# Altium schematic symbol library STMicroelectronics STM32 L1.SchLib: 169 symbols (part 15 of 20)
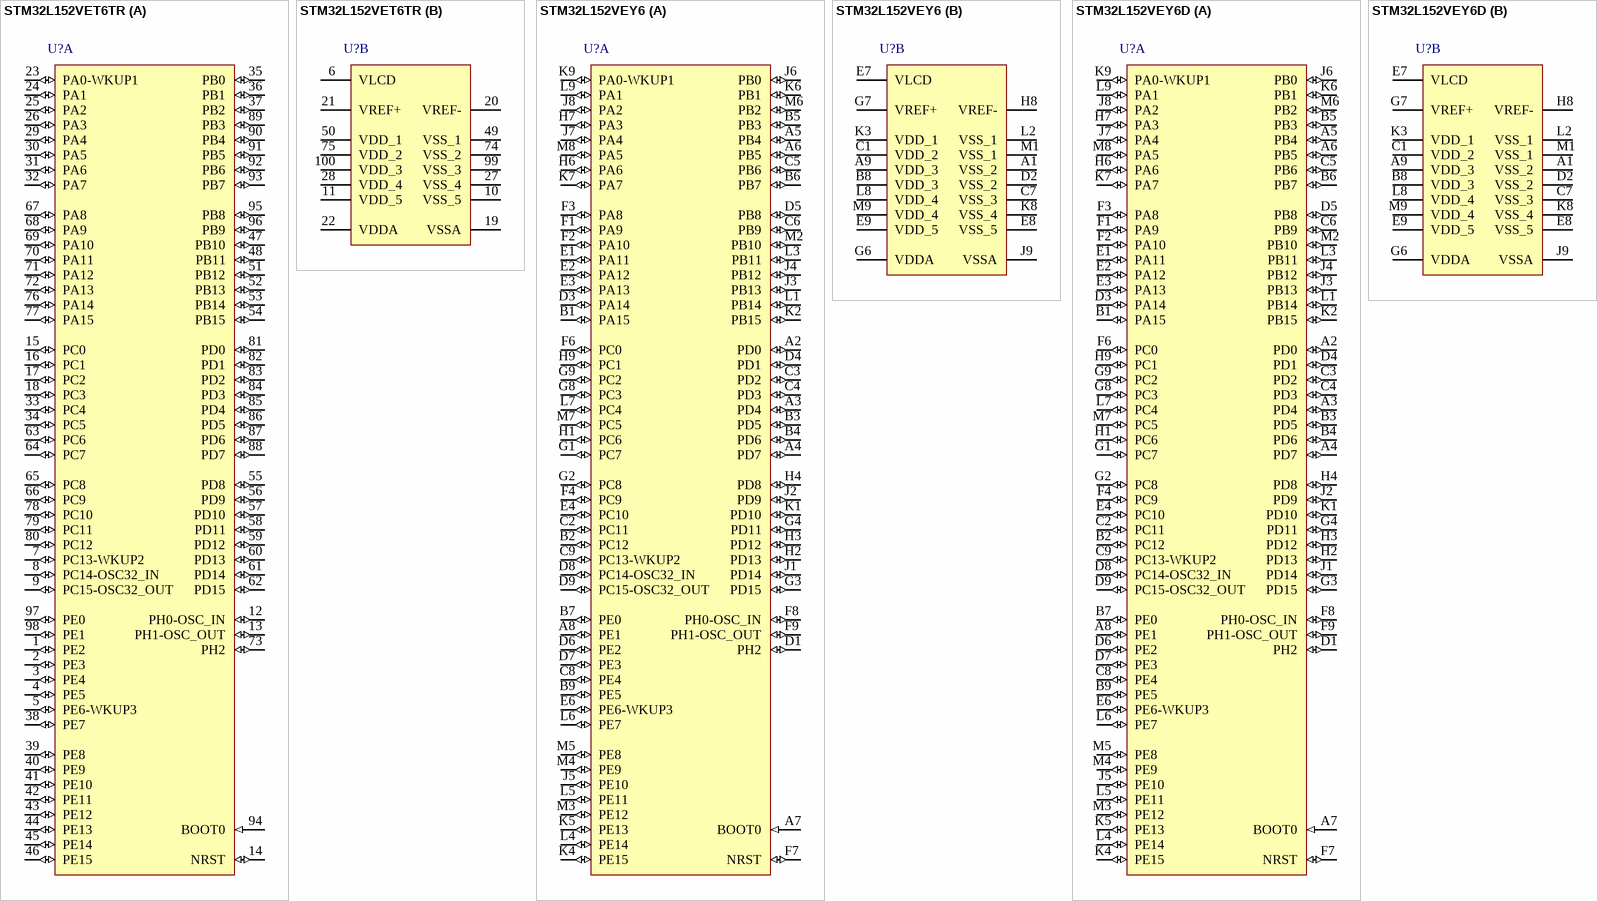
[diagram p48: symbols STM32L152VET6TR to STM32L152VEY6D]

## STM32L152VET6TR
designator U?
ARM Cortex-M3 32-bit MCU, 512 KB Flash, 80 KB Internal RAM, 83 I/Os, 100-pin LQFP, -40 to 85 degC, Tape and Reel; Manufacturer: STMicroelectronics; PartNumber: STM32L152VET6TR; D/A Converter: 2x12-bit (2 Channel); Data E2PROM nom (kB): 16; FLASH Size (Prog) (kB): 512; I/Os (High Current): 83; Internal RAM Size (kB): 80; Operating Frequency(F) (Processor speed) (MHz): 32; Supply Voltage (V): 1.8 to 3.6 V; DatasheetVersion: Rev. 4; PackageVersion: Rev. 4; PackageReference: LQFP100; PackageDescription: 100-Pin Low Profile Quad Flat Package, Body 14 x 14 mm, Pitch 0.5 mm; Core: ARM Cortex-M3; Temperature Range: -40 to 85 degC; Packing: Tape and Reel; Mounting Technology: Surface Mount; ComponentLink1Description: Manufacturer URL; ComponentLink1URL: http://www.st.com/web/en/home.html; ComponentLink2Description: Datasheet; ComponentLink2URL: http://www.st.com/st-web-ui/static/active/en/resource/technical/document/datasheet/DM00098321.pdf; ComponentLink3Description: Package Specification; ComponentLink3URL: http://www.st.com/st-web-ui/static/active/en/resource/technical/document/datasheet/DM00098321.pdf
footprint STM-LQFP100_N (Thin QFP, 100-Leads, Body 14x14mm, Pitch 0.5mm, IPC Medium Density)
footprint STM-LQFP100_L (Thin QFP, 100-Leads, Body 14x14mm, Pitch 0.5mm, IPC High Density)
footprint STM-LQFP100_M (Thin QFP, 100-Leads, Body 14x14mm, Pitch 0.5mm, IPC Low Density)
footprint STM-LQFP100_V (Thin QFP, 100-Leads, Body 14x14mm, Pitch 0.5mm, ST Recommended)
part A pins: 1 PE2 (io) "PE2/TIM3_ETR/LCD_SEG38/TRACECLK", 2 PE3 (io) "PE3/TIM3_CH1/LCD_SEG39/TRACED0", 3 PE4 (io) "PE4/TIM3_CH2/TRACED1", 4 PE5 (io) "PE5/TIM9_CH1/TRACED2", 5 PE6-WKUP3 (io) "PE6-WKUP3/PE6/WKUP3/RTC_TAMP3/TIM9_CH2/TRACED3", 7 PC13-WKUP2 (io) "PC13-WKUP2/PC13/WKUP2/RTC_TAMP1/RTC_TS/RTC_OUT", 8 PC14-OSC32_IN (io) "PC14-OSC32_IN/PC14/OSC32_IN", 9 PC15-OSC32_OUT (io) "PC15-OSC32_OUT/PC15/OSC32_OUT", 12 PH0-OSC_IN (io) "PH0-OSC_IN/PH0/OSC_IN", 13 PH1-OSC_OUT (io) "PH1-OSC_OUT/PH1/OSC_OUT", 14 NRST (io), 15 PC0 (io) "PC0/LCD_SEG18/ADC_IN10/COMP1_INP", 16 PC1 (io) "PC1/LCD_SEG19/ADC_IN11/COMP1_INP", 17 PC2 (io) "PC2/LCD_SEG20/ADC_IN12/COMP1_INP", 18 PC3 (io) "PC3/LCD_SEG21/ADC_IN13/COMP1_INP", 23 PA0-WKUP1 (io) "PA0-WKUP1/PA0/WKUP1/RTC_TAMP2/TIM2_CH1_ETR/TIM5_CH1/USART2_CTS/ADC_IN0/COMP1_INP", 24 PA1 (io) "PA1/TIM2_CH2/TIM5_CH2/USART2_RTS/LCD_SEG0/ADC_IN1/COMP1_INP/OPAMP1_VINP", 25 PA2 (io) "PA2/TIM2_CH3/TIM5_CH3/TIM9_CH1/USART2_TX/LCD_SEG1/ADC_IN2/COMP1_INP/OPAMP1_VINM", 26 PA3 (io) "PA3/TIM2_CH4/TIM5_CH4/TIM9_CH2/USART2_RX/LCD_SEG2/ADC_IN3/COMP1_INP/OPAMP1_VOUT", 29 PA4 (io) "PA4/SPI1_NSS/SPI3_NSS/I2S3_WS/USART2_CK/ADC_IN4/DAC_OUT1/COMP1_INP", 30 PA5 (io) "PA5/TIM2_CH1_ETR/SPI1_SCK/ADC_IN5/DAC_OUT2/COMP1_INP", 31 PA6 (io) "PA6/TIM3_CH1/TIM10_CH1/SPI1_MISO/LCD_SEG3/ADC_IN6/COMP1_INP/OPAMP2_VINP", 32 PA7 (io) "PA7/TIM3_CH2/TIM11_CH1/SPI1_MOSI/LCD_SEG4/ADC_IN7/COMP1_INP/OPAMP2_VINM", 33 PC4 (io) "PC4/LCD_SEG22/ADC_IN14/COMP1_INP", 34 PC5 (io) "PC5/LCD_SEG23/ADC_IN15/COMP1_INP", 35 PB0 (io) "PB0/TIM3_CH3/LCD_SEG5/ADC_IN8/COMP1_INP/VREF_OUT/OPAMP2_VOUT", 36 PB1 (io) "PB1/TIM3_CH4/LCD_SEG6/ADC_IN9/COMP1_INP/VREF_OUT", 37 PB2 (io) "PB2/BOOT1/COMP1_INP", 38 PE7 (io) "PE7/ADC_IN22/COMP1_INP", 39 PE8 (io) "PE8/ADC_IN23/COMP1_INP", 40 PE9 (io) "PE9/TIM2_CH1_ETR/ADC_IN24/COMP1_INP", 41 PE10 (io) "PE10/TIM2_CH2/ADC_IN25/COMP1_INP", 42 PE11 (io) "PE11/TIM2_CH3", 43 PE12 (io) "PE12/TIM2_CH4/SPI1_NSS", 44 PE13 (io) "PE13/SPI1_SCK", 45 PE14 (io) "PE14/SPI1_MISO", 46 PE15 (io) "PE15/SPI1_MOSI", 47 PB10 (io) "PB10/TIM2_CH3/I2C2_SCL/USART3_TX/LCD_SEG10", 48 PB11 (io) "PB11/TIM2_CH4/I2C2_SDA/USART3_RX/LCD_SEG11", 51 PB12 (io) "PB12/TIM10_CH1/I2C2_SMBA/SPI2_NSS/I2S2_WS/USART3_CK/LCD_SEG12/ADC_IN18/COMP1_INP", 52 PB13 (io) "PB13/TIM9_CH1/SPI2_SCK/I2S2_CK/USART3_CTS/LCD_SEG13/ADC_IN19/COMP1_INP", 53 PB14 (io) "PB14/TIM9_CH2/SPI2_MISO/USART3_RTS/LCD_SEG14/ADC_IN20/COMP1_INP", 54 PB15 (io) "PB15/TIM11_CH1/SPI2_MOSI/I2S2_SD/LCD_SEG15/ADC_IN21/COMP1_INP/RTC_REFIN", 55 PD8 (io) "PD8/USART3_TX/LCD_SEG28", 56 PD9 (io) "PD9/USART3_RX/LCD_SEG29", 57 PD10 (io) "PD10/USART3_CK/LCD_SEG30", 58 PD11 (io) "PD11/USART3_CTS/LCD_SEG31", 59 PD12 (io) "PD12/TIM4_CH1/USART3_RTS/LCD_SEG32", 60 PD13 (io) "PD13/TIM4_CH2/LCD_SEG33", 61 PD14 (io) "PD14/TIM4_CH3/LCD_SEG34", 62 PD15 (io) "PD15/TIM4_CH4/LCD_SEG35", 63 PC6 (io) "PC6/TIM3_CH1/I2S2_MCK/LCD_SEG24", 64 PC7 (io) "PC7/TIM3_CH2/I2S3_MCK/LCD_SEG25", 65 PC8 (io) "PC8/TIM3_CH3/LCD_SEG26", 66 PC9 (io) "PC9/TIM3_CH4/LCD_SEG27", 67 PA8 (io) "PA8/USART1_CK/MCO/LCD_COM0", 68 PA9 (io) "PA9/USART1_TX/LCD_COM1", 69 PA10 (io) "PA10/USART1_RX/LCD_COM2", 70 PA11 (io) "PA11/USART1_CTS/USB_DM/SPI1_MISO", 71 PA12 (io) "PA12/USART1_RTS/USB_DP/SPI1_MOSI", 72 PA13 (io) "PA13/JTMS-SWDAT", 73 PH2 (io), 76 PA14 (io) "PA14/JTCK-SWCLK", 77 PA15 (io) "PA15/JTDI/TIM2_CH1_ETR/SPI1_NSS/SPI3_NSS/I2S3_WS/LCD_SEG17", 78 PC10 (io) "PC10/SPI3_SCK/I2S3_CK/USART3_TX/UART4_TX/LCD_SEG28/LCD_SEG40/LCD_COM4", 79 PC11 (io) "PC11/SPI3_MISO/USART3_RX/UART4_RX/LCD_SEG29/LCD_SEG41/LCD_COM5", 80 PC12 (io) "PC12/SPI3_MOSI/I2S3_SD/USART3_CK/UART5_TX/LCD_SEG30/LCD_SEG42/LCD_COM6", 81 PD0 (io) "PD0/TIM9_CH1/SPI2_NSS/I2S2_WS", 82 PD1 (io) "PD1/SPI2_SCK/I2S2_CK", 83 PD2 (io) "PD2/TIM3_ETR/UART5_RX/LCD_SEG31/LCD_SEG43/LCD_COM7", 84 PD3 (io) "PD3/SPI2_MISO/USART2_CTS", 85 PD4 (io) "PD4/SPI2_MOSI/I2S2_SD/USART2_RTS", 86 PD5 (io) "PD5/USART2_TX", 87 PD6 (io) "PD6/USART2_RX", 88 PD7 (io) "PD7/TIM9_CH2/USART2_CK", 89 PB3 (io) "PB3/JTDO/TIM2_CH2/SPI1_SCK/SPI3_SCK/I2S3_CK/LCD_SEG7/COMP2_INM", 90 PB4 (io) "PB4/NJTRST/TIM3_CH1/SPI1_MISO/SPI3_MISO/LCD_SEG8/COMP2_INP", 91 PB5 (io) "PB5/TIM3_CH2/I2C1_SMBA/SPI1_MOSI/SPI3_MOSI/I2S3_SD/LCD_SEG9/COMP2_INP", 92 PB6 (io) "PB6/TIM4_CH1/I2C1_SCL/USART1_TX/COMP2_INP", 93 PB7 (io) "PB7/TIM4_CH2/I2C1_SDA/USART1_RX/PVD_IN/COMP2_INP", 94 BOOT0 (in), 95 PB8 (io) "PB8/TIM4_CH3/TIM10_CH1/I2C1_SCL/LCD_SEG16", 96 PB9 (io) "PB9/TIM4_CH4/TIM11_CH1/I2C1_SDA/LCD_COM3", 97 PE0 (io) "PE0/TIM4_ETR/TIM10_CH1/LCD_SEG36", 98 PE1 (io) "PE1/TIM11_CH1/LCD_SEG37"
part B pins: 6 VLCD (power), 10 VSS_5 (power), 11 VDD_5 (power), 19 VSSA (power), 20 VREF- (power), 21 VREF+ (power), 22 VDDA (power), 27 VSS_4 (power), 28 VDD_4 (power), 49 VSS_1 (power), 50 VDD_1 (power), 74 VSS_2 (power), 75 VDD_2 (power), 99 VSS_3 (power), 100 VDD_3 (power)

## STM32L152VEY6
designator U?
ARM Cortex-M3 32-bit MCU, 512 KB Flash, 80 KB Internal RAM, 83 I/Os, 104-pin WLCSP, -40 to 85 degC, Tray; Manufacturer: STMicroelectronics; PartNumber: STM32L152VEY6; D/A Converter: 2x12-bit (2 Channel); Data E2PROM nom (kB): 16; FLASH Size (Prog) (kB): 512; I/Os (High Current): 83; Internal RAM Size (kB): 80; Operating Frequency(F) (Processor speed) (MHz): 32; Supply Voltage (V): 1.8 to 3.6 V; DatasheetVersion: Rev. 4; PackageVersion: Rev. 2; PackageReference: WLCSP104; PackageDescription: 104-Ball Wafer Level Chip Size package, Body 5.094 x 4.095 mm, Pitch 0.4 mm; Core: ARM Cortex-M3; Temperature Range: -40 to 85 degC; Packing: Tray; Mounting Technology: Surface Mount; ComponentLink1Description: Manufacturer URL; ComponentLink1URL: http://www.st.com/web/en/home.html; ComponentLink2Description: Datasheet; ComponentLink2URL: http://www.st.com/st-web-ui/static/active/en/resource/technical/document/datasheet/DM00098321.pdf; ComponentLink3Description: Package Specification; ComponentLink3URL: http://www.st.com/st-web-ui/static/active/en/resource/technical/document/datasheet/DM00106442.pdf
footprint STM-WLCSP104 (BGA, 104-Balls, Body 5.09x4.1mm, Pitch 0.4mm)
part A pins: A2 PD0 (io) "PD0/TIM9_CH1/SPI2_NSS/I2S2_WS", A3 PD4 (io) "PD4/SPI2_MOSI/I2S2_SD/USART2_RTS", A4 PD7 (io) "PD7/TIM9_CH2/USART2_CK", A5 PB4 (io) "PB4/NJTRST/TIM3_CH1/SPI1_MISO/SPI3_MISO/LCD_SEG8/COMP2_INP", A6 PB5 (io) "PB5/TIM3_CH2/I2C1_SMBA/SPI1_MOSI/SPI3_MOSI/I2S3_SD/LCD_SEG9/COMP2_INP", A7 BOOT0 (in), A8 PE1 (io) "PE1/TIM11_CH1/LCD_SEG37", B1 PA15 (io) "PA15/JTDI/TIM2_CH1_ETR/SPI1_NSS/SPI3_NSS/I2S3_WS/LCD_SEG17", B2 PC12 (io) "PC12/SPI3_MOSI/I2S3_SD/USART3_CK/UART5_TX/LCD_SEG30/LCD_SEG42/LCD_COM6", B3 PD5 (io) "PD5/USART2_TX", B4 PD6 (io) "PD6/USART2_RX", B5 PB3 (io) "PB3/JTDO/TIM2_CH2/SPI1_SCK/SPI3_SCK/I2S3_CK/LCD_SEG7/COMP2_INM", B6 PB7 (io) "PB7/TIM4_CH2/I2C1_SDA/USART1_RX/PVD_IN/COMP2_INP", B7 PE0 (io) "PE0/TIM4_ETR/TIM10_CH1/LCD_SEG36", B9 PE5 (io) "PE5/TIM9_CH1/TRACED2", C2 PC11 (io) "PC11/SPI3_MISO/USART3_RX/UART4_RX/LCD_SEG29/LCD_SEG41/LCD_COM5", C3 PD2 (io) "PD2/TIM3_ETR/UART5_RX/LCD_SEG31/LCD_SEG43/LCD_COM7", C4 PD3 (io) "PD3/SPI2_MISO/USART2_CTS", C5 PB6 (io) "PB6/TIM4_CH1/I2C1_SCL/USART1_TX/COMP2_INP", C6 PB9 (io) "PB9/TIM4_CH4/TIM11_CH1/I2C1_SDA/LCD_COM3", C8 PE4 (io) "PE4/TIM3_CH2/TRACED1", C9 PC13-WKUP2 (io) "PC13-WKUP2/PC13/WKUP2/RTC_TAMP1/RTC_TS/RTC_OUT", D1 PH2 (io), D3 PA14 (io) "PA14/JTCK-SWCLK", D4 PD1 (io) "PD1/SPI2_SCK/I2S2_CK", D5 PB8 (io) "PB8/TIM4_CH3/TIM10_CH1/I2C1_SCL/LCD_SEG16", D6 PE2 (io) "PE2/TIM3_ETR/LCD_SEG38/TRACECLK", D7 PE3 (io) "PE3/TIM3_CH1/LCD_SEG39/TRACED0", D8 PC14-OSC32_IN (io) "PC14-OSC32_IN/PC14/OSC32_IN", D9 PC15-OSC32_OUT (io) "PC15-OSC32_OUT/PC15/OSC32_OUT", E1 PA11 (io) "PA11/USART1_CTS/USB_DM/SPI1_MISO", E2 PA12 (io) "PA12/USART1_RTS/USB_DP/SPI1_MOSI", E3 PA13 (io) "PA13/JTMS-SWDAT", E4 PC10 (io) "PC10/SPI3_SCK/I2S3_CK/USART3_TX/UART4_TX/LCD_SEG28/LCD_SEG40/LCD_COM4", E6 PE6-WKUP3 (io) "PE6-WKUP3/PE6/WKUP3/RTC_TAMP3/TIM9_CH2/TRACED3", F1 PA9 (io) "PA9/USART1_TX/LCD_COM1", F2 PA10 (io) "PA10/USART1_RX/LCD_COM2", F3 PA8 (io) "PA8/USART1_CK/MCO/LCD_COM0", F4 PC9 (io) "PC9/TIM3_CH4/LCD_SEG27", F6 PC0 (io) "PC0/LCD_SEG18/ADC_IN10/COMP1_INP", F7 NRST (io), F8 PH0-OSC_IN (io) "PH0-OSC_IN/PH0/OSC_IN", F9 PH1-OSC_OUT (io) "PH1-OSC_OUT/PH1/OSC_OUT", G1 PC7 (io) "PC7/TIM3_CH2/I2S3_MCK/LCD_SEG25", G2 PC8 (io) "PC8/TIM3_CH3/LCD_SEG26", G3 PD15 (io) "PD15/TIM4_CH4/LCD_SEG35", G4 PD11 (io) "PD11/USART3_CTS/LCD_SEG31", G8 PC3 (io) "PC3/LCD_SEG21/ADC_IN13/COMP1_INP", G9 PC2 (io) "PC2/LCD_SEG20/ADC_IN12/COMP1_INP", H1 PC6 (io) "PC6/TIM3_CH1/I2S2_MCK/LCD_SEG24", H2 PD13 (io) "PD13/TIM4_CH2/LCD_SEG33", H3 PD12 (io) "PD12/TIM4_CH1/USART3_RTS/LCD_SEG32", H4 PD8 (io) "PD8/USART3_TX/LCD_SEG28", H6 PA6 (io) "PA6/TIM3_CH1/TIM10_CH1/SPI1_MISO/LCD_SEG3/ADC_IN6/COMP1_INP/OPAMP2_VINP", H7 PA3 (io) "PA3/TIM2_CH4/TIM5_CH4/TIM9_CH2/USART2_RX/LCD_SEG2/ADC_IN3/COMP1_INP/OPAMP1_VOUT", H9 PC1 (io) "PC1/LCD_SEG19/ADC_IN11/COMP1_INP", J1 PD14 (io) "PD14/TIM4_CH3/LCD_SEG34", J2 PD9 (io) "PD9/USART3_RX/LCD_SEG29", J3 PB13 (io) "PB13/TIM9_CH1/SPI2_SCK/I2S2_CK/USART3_CTS/LCD_SEG13/ADC_IN19/COMP1_INP", J4 PB12 (io) "PB12/TIM10_CH1/I2C2_SMBA/SPI2_NSS/I2S2_WS/USART3_CK/LCD_SEG12/ADC_IN18/COMP1_INP", J5 PE10 (io) "PE10/TIM2_CH2/ADC_IN25/COMP1_INP", J6 PB0 (io) "PB0/TIM3_CH3/LCD_SEG5/ADC_IN8/COMP1_INP/VREF_OUT/OPAMP2_VOUT", J7 PA4 (io) "PA4/SPI1_NSS/SPI3_NSS/I2S3_WS/USART2_CK/ADC_IN4/DAC_OUT1/COMP1_INP", J8 PA2 (io) "PA2/TIM2_CH3/TIM5_CH3/TIM9_CH1/USART2_TX/LCD_SEG1/ADC_IN2/COMP1_INP/OPAMP1_VINM", K1 PD10 (io) "PD10/USART3_CK/LCD_SEG30", K2 PB15 (io) "PB15/TIM11_CH1/SPI2_MOSI/I2S2_SD/LCD_SEG15/ADC_IN21/COMP1_INP/RTC_REFIN", K4 PE15 (io) "PE15/SPI1_MOSI", K5 PE13 (io) "PE13/SPI1_SCK", K6 PB1 (io) "PB1/TIM3_CH4/LCD_SEG6/ADC_IN9/COMP1_INP/VREF_OUT", K7 PA7 (io) "PA7/TIM3_CH2/TIM11_CH1/SPI1_MOSI/LCD_SEG4/ADC_IN7/COMP1_INP/OPAMP2_VINM", K9 PA0-WKUP1 (io) "PA0-WKUP1/PA0/WKUP1/RTC_TAMP2/TIM2_CH1_ETR/TIM5_CH1/USART2_CTS/ADC_IN0/COMP1_INP", L1 PB14 (io) "PB14/TIM9_CH2/SPI2_MISO/USART3_RTS/LCD_SEG14/ADC_IN20/COMP1_INP", L3 PB11 (io) "PB11/TIM2_CH4/I2C2_SDA/USART3_RX/LCD_SEG11", L4 PE14 (io) "PE14/SPI1_MISO", L5 PE11 (io) "PE11/TIM2_CH3", L6 PE7 (io) "PE7/ADC_IN22/COMP1_INP", L7 PC4 (io) "PC4/LCD_SEG22/ADC_IN14/COMP1_INP", L9 PA1 (io) "PA1/TIM2_CH2/TIM5_CH2/USART2_RTS/LCD_SEG0/ADC_IN1/COMP1_INP/OPAMP1_VINP", M2 PB10 (io) "PB10/TIM2_CH3/I2C2_SCL/USART3_TX/LCD_SEG10", M3 PE12 (io) "PE12/TIM2_CH4/SPI1_NSS", M4 PE9 (io) "PE9/TIM2_CH1_ETR/ADC_IN24/COMP1_INP", M5 PE8 (io) "PE8/ADC_IN23/COMP1_INP", M6 PB2 (io) "PB2/BOOT1/COMP1_INP", M7 PC5 (io) "PC5/LCD_SEG23/ADC_IN15/COMP1_INP", M8 PA5 (io) "PA5/TIM2_CH1_ETR/SPI1_SCK/ADC_IN5/DAC_OUT2/COMP1_INP"
part B pins: A1 VSS_2 (power), A9 VDD_3 (power), B8 VDD_3 (power), C1 VDD_2 (power), C7 VSS_3 (power), D2 VSS_2 (power), E7 VLCD (power), E8 VSS_5 (power), E9 VDD_5 (power), G6 VDDA (power), G7 VREF+ (power), H8 VREF- (power), J9 VSSA (power), K3 VDD_1 (power), K8 VSS_4 (power), L2 VSS_1 (power), L8 VDD_4 (power), M1 VSS_1 (power), M9 VDD_4 (power)

## STM32L152VEY6D
designator U?
ARM Cortex-M3 32-bit MCU, 512 KB Flash, 80 KB Internal RAM, 83 I/Os, 104-pin WLCSP, -40 to 85 degC, Tray; Manufacturer: STMicroelectronics; PartNumber: STM32L152VEY6D; D/A Converter: 2x12-bit (2 Channel); Data E2PROM nom (kB): 16; FLASH Size (Prog) (kB): 512; I/Os (High Current): 83; Internal RAM Size (kB): 80; Operating Frequency(F) (Processor speed) (MHz): 32; Supply Voltage (V): 1.65 to 3.6 V; DatasheetVersion: Rev. 4; PackageVersion: Rev. 2; PackageReference: WLCSP104; PackageDescription: 104-Ball Wafer Level Chip Size package, Body 5.094 x 4.095 mm, Pitch 0.4 mm; Core: ARM Cortex-M3; Temperature Range: -40 to 85 degC; Packing: Tray; Mounting Technology: Surface Mount; ComponentLink1Description: Manufacturer URL; ComponentLink1URL: http://www.st.com/web/en/home.html; ComponentLink2Description: Datasheet; ComponentLink2URL: http://www.st.com/st-web-ui/static/active/en/resource/technical/document/datasheet/DM00098321.pdf; ComponentLink3Description: Package Specification; ComponentLink3URL: http://www.st.com/st-web-ui/static/active/en/resource/technical/document/datasheet/DM00106442.pdf
footprint STM-WLCSP104 (BGA, 104-Balls, Body 5.09x4.1mm, Pitch 0.4mm)
part A pins: A2 PD0 (io) "PD0/TIM9_CH1/SPI2_NSS/I2S2_WS", A3 PD4 (io) "PD4/SPI2_MOSI/I2S2_SD/USART2_RTS", A4 PD7 (io) "PD7/TIM9_CH2/USART2_CK", A5 PB4 (io) "PB4/NJTRST/TIM3_CH1/SPI1_MISO/SPI3_MISO/LCD_SEG8/COMP2_INP", A6 PB5 (io) "PB5/TIM3_CH2/I2C1_SMBA/SPI1_MOSI/SPI3_MOSI/I2S3_SD/LCD_SEG9/COMP2_INP", A7 BOOT0 (in), A8 PE1 (io) "PE1/TIM11_CH1/LCD_SEG37", B1 PA15 (io) "PA15/JTDI/TIM2_CH1_ETR/SPI1_NSS/SPI3_NSS/I2S3_WS/LCD_SEG17", B2 PC12 (io) "PC12/SPI3_MOSI/I2S3_SD/USART3_CK/UART5_TX/LCD_SEG30/LCD_SEG42/LCD_COM6", B3 PD5 (io) "PD5/USART2_TX", B4 PD6 (io) "PD6/USART2_RX", B5 PB3 (io) "PB3/JTDO/TIM2_CH2/SPI1_SCK/SPI3_SCK/I2S3_CK/LCD_SEG7/COMP2_INM", B6 PB7 (io) "PB7/TIM4_CH2/I2C1_SDA/USART1_RX/PVD_IN/COMP2_INP", B7 PE0 (io) "PE0/TIM4_ETR/TIM10_CH1/LCD_SEG36", B9 PE5 (io) "PE5/TIM9_CH1/TRACED2", C2 PC11 (io) "PC11/SPI3_MISO/USART3_RX/UART4_RX/LCD_SEG29/LCD_SEG41/LCD_COM5", C3 PD2 (io) "PD2/TIM3_ETR/UART5_RX/LCD_SEG31/LCD_SEG43/LCD_COM7", C4 PD3 (io) "PD3/SPI2_MISO/USART2_CTS", C5 PB6 (io) "PB6/TIM4_CH1/I2C1_SCL/USART1_TX/COMP2_INP", C6 PB9 (io) "PB9/TIM4_CH4/TIM11_CH1/I2C1_SDA/LCD_COM3", C8 PE4 (io) "PE4/TIM3_CH2/TRACED1", C9 PC13-WKUP2 (io) "PC13-WKUP2/PC13/WKUP2/RTC_TAMP1/RTC_TS/RTC_OUT", D1 PH2 (io), D3 PA14 (io) "PA14/JTCK-SWCLK", D4 PD1 (io) "PD1/SPI2_SCK/I2S2_CK", D5 PB8 (io) "PB8/TIM4_CH3/TIM10_CH1/I2C1_SCL/LCD_SEG16", D6 PE2 (io) "PE2/TIM3_ETR/LCD_SEG38/TRACECLK", D7 PE3 (io) "PE3/TIM3_CH1/LCD_SEG39/TRACED0", D8 PC14-OSC32_IN (io) "PC14-OSC32_IN/PC14/OSC32_IN", D9 PC15-OSC32_OUT (io) "PC15-OSC32_OUT/PC15/OSC32_OUT", E1 PA11 (io) "PA11/USART1_CTS/USB_DM/SPI1_MISO", E2 PA12 (io) "PA12/USART1_RTS/USB_DP/SPI1_MOSI", E3 PA13 (io) "PA13/JTMS-SWDAT", E4 PC10 (io) "PC10/SPI3_SCK/I2S3_CK/USART3_TX/UART4_TX/LCD_SEG28/LCD_SEG40/LCD_COM4", E6 PE6-WKUP3 (io) "PE6-WKUP3/PE6/WKUP3/RTC_TAMP3/TIM9_CH2/TRACED3", F1 PA9 (io) "PA9/USART1_TX/LCD_COM1", F2 PA10 (io) "PA10/USART1_RX/LCD_COM2", F3 PA8 (io) "PA8/USART1_CK/MCO/LCD_COM0", F4 PC9 (io) "PC9/TIM3_CH4/LCD_SEG27", F6 PC0 (io) "PC0/LCD_SEG18/ADC_IN10/COMP1_INP", F7 NRST (io), F8 PH0-OSC_IN (io) "PH0-OSC_IN/PH0/OSC_IN", F9 PH1-OSC_OUT (io) "PH1-OSC_OUT/PH1/OSC_OUT", G1 PC7 (io) "PC7/TIM3_CH2/I2S3_MCK/LCD_SEG25", G2 PC8 (io) "PC8/TIM3_CH3/LCD_SEG26", G3 PD15 (io) "PD15/TIM4_CH4/LCD_SEG35", G4 PD11 (io) "PD11/USART3_CTS/LCD_SEG31", G8 PC3 (io) "PC3/LCD_SEG21/ADC_IN13/COMP1_INP", G9 PC2 (io) "PC2/LCD_SEG20/ADC_IN12/COMP1_INP", H1 PC6 (io) "PC6/TIM3_CH1/I2S2_MCK/LCD_SEG24", H2 PD13 (io) "PD13/TIM4_CH2/LCD_SEG33", H3 PD12 (io) "PD12/TIM4_CH1/USART3_RTS/LCD_SEG32", H4 PD8 (io) "PD8/USART3_TX/LCD_SEG28", H6 PA6 (io) "PA6/TIM3_CH1/TIM10_CH1/SPI1_MISO/LCD_SEG3/ADC_IN6/COMP1_INP/OPAMP2_VINP", H7 PA3 (io) "PA3/TIM2_CH4/TIM5_CH4/TIM9_CH2/USART2_RX/LCD_SEG2/ADC_IN3/COMP1_INP/OPAMP1_VOUT", H9 PC1 (io) "PC1/LCD_SEG19/ADC_IN11/COMP1_INP", J1 PD14 (io) "PD14/TIM4_CH3/LCD_SEG34", J2 PD9 (io) "PD9/USART3_RX/LCD_SEG29", J3 PB13 (io) "PB13/TIM9_CH1/SPI2_SCK/I2S2_CK/USART3_CTS/LCD_SEG13/ADC_IN19/COMP1_INP", J4 PB12 (io) "PB12/TIM10_CH1/I2C2_SMBA/SPI2_NSS/I2S2_WS/USART3_CK/LCD_SEG12/ADC_IN18/COMP1_INP", J5 PE10 (io) "PE10/TIM2_CH2/ADC_IN25/COMP1_INP", J6 PB0 (io) "PB0/TIM3_CH3/LCD_SEG5/ADC_IN8/COMP1_INP/VREF_OUT/OPAMP2_VOUT", J7 PA4 (io) "PA4/SPI1_NSS/SPI3_NSS/I2S3_WS/USART2_CK/ADC_IN4/DAC_OUT1/COMP1_INP", J8 PA2 (io) "PA2/TIM2_CH3/TIM5_CH3/TIM9_CH1/USART2_TX/LCD_SEG1/ADC_IN2/COMP1_INP/OPAMP1_VINM", K1 PD10 (io) "PD10/USART3_CK/LCD_SEG30", K2 PB15 (io) "PB15/TIM11_CH1/SPI2_MOSI/I2S2_SD/LCD_SEG15/ADC_IN21/COMP1_INP/RTC_REFIN", K4 PE15 (io) "PE15/SPI1_MOSI", K5 PE13 (io) "PE13/SPI1_SCK", K6 PB1 (io) "PB1/TIM3_CH4/LCD_SEG6/ADC_IN9/COMP1_INP/VREF_OUT", K7 PA7 (io) "PA7/TIM3_CH2/TIM11_CH1/SPI1_MOSI/LCD_SEG4/ADC_IN7/COMP1_INP/OPAMP2_VINM", K9 PA0-WKUP1 (io) "PA0-WKUP1/PA0/WKUP1/RTC_TAMP2/TIM2_CH1_ETR/TIM5_CH1/USART2_CTS/ADC_IN0/COMP1_INP", L1 PB14 (io) "PB14/TIM9_CH2/SPI2_MISO/USART3_RTS/LCD_SEG14/ADC_IN20/COMP1_INP", L3 PB11 (io) "PB11/TIM2_CH4/I2C2_SDA/USART3_RX/LCD_SEG11", L4 PE14 (io) "PE14/SPI1_MISO", L5 PE11 (io) "PE11/TIM2_CH3", L6 PE7 (io) "PE7/ADC_IN22/COMP1_INP", L7 PC4 (io) "PC4/LCD_SEG22/ADC_IN14/COMP1_INP", L9 PA1 (io) "PA1/TIM2_CH2/TIM5_CH2/USART2_RTS/LCD_SEG0/ADC_IN1/COMP1_INP/OPAMP1_VINP", M2 PB10 (io) "PB10/TIM2_CH3/I2C2_SCL/USART3_TX/LCD_SEG10", M3 PE12 (io) "PE12/TIM2_CH4/SPI1_NSS", M4 PE9 (io) "PE9/TIM2_CH1_ETR/ADC_IN24/COMP1_INP", M5 PE8 (io) "PE8/ADC_IN23/COMP1_INP", M6 PB2 (io) "PB2/BOOT1/COMP1_INP", M7 PC5 (io) "PC5/LCD_SEG23/ADC_IN15/COMP1_INP", M8 PA5 (io) "PA5/TIM2_CH1_ETR/SPI1_SCK/ADC_IN5/DAC_OUT2/COMP1_INP"
part B pins: A1 VSS_2 (power), A9 VDD_3 (power), B8 VDD_3 (power), C1 VDD_2 (power), C7 VSS_3 (power), D2 VSS_2 (power), E7 VLCD (power), E8 VSS_5 (power), E9 VDD_5 (power), G6 VDDA (power), G7 VREF+ (power), H8 VREF- (power), J9 VSSA (power), K3 VDD_1 (power), K8 VSS_4 (power), L2 VSS_1 (power), L8 VDD_4 (power), M1 VSS_1 (power), M9 VDD_4 (power)

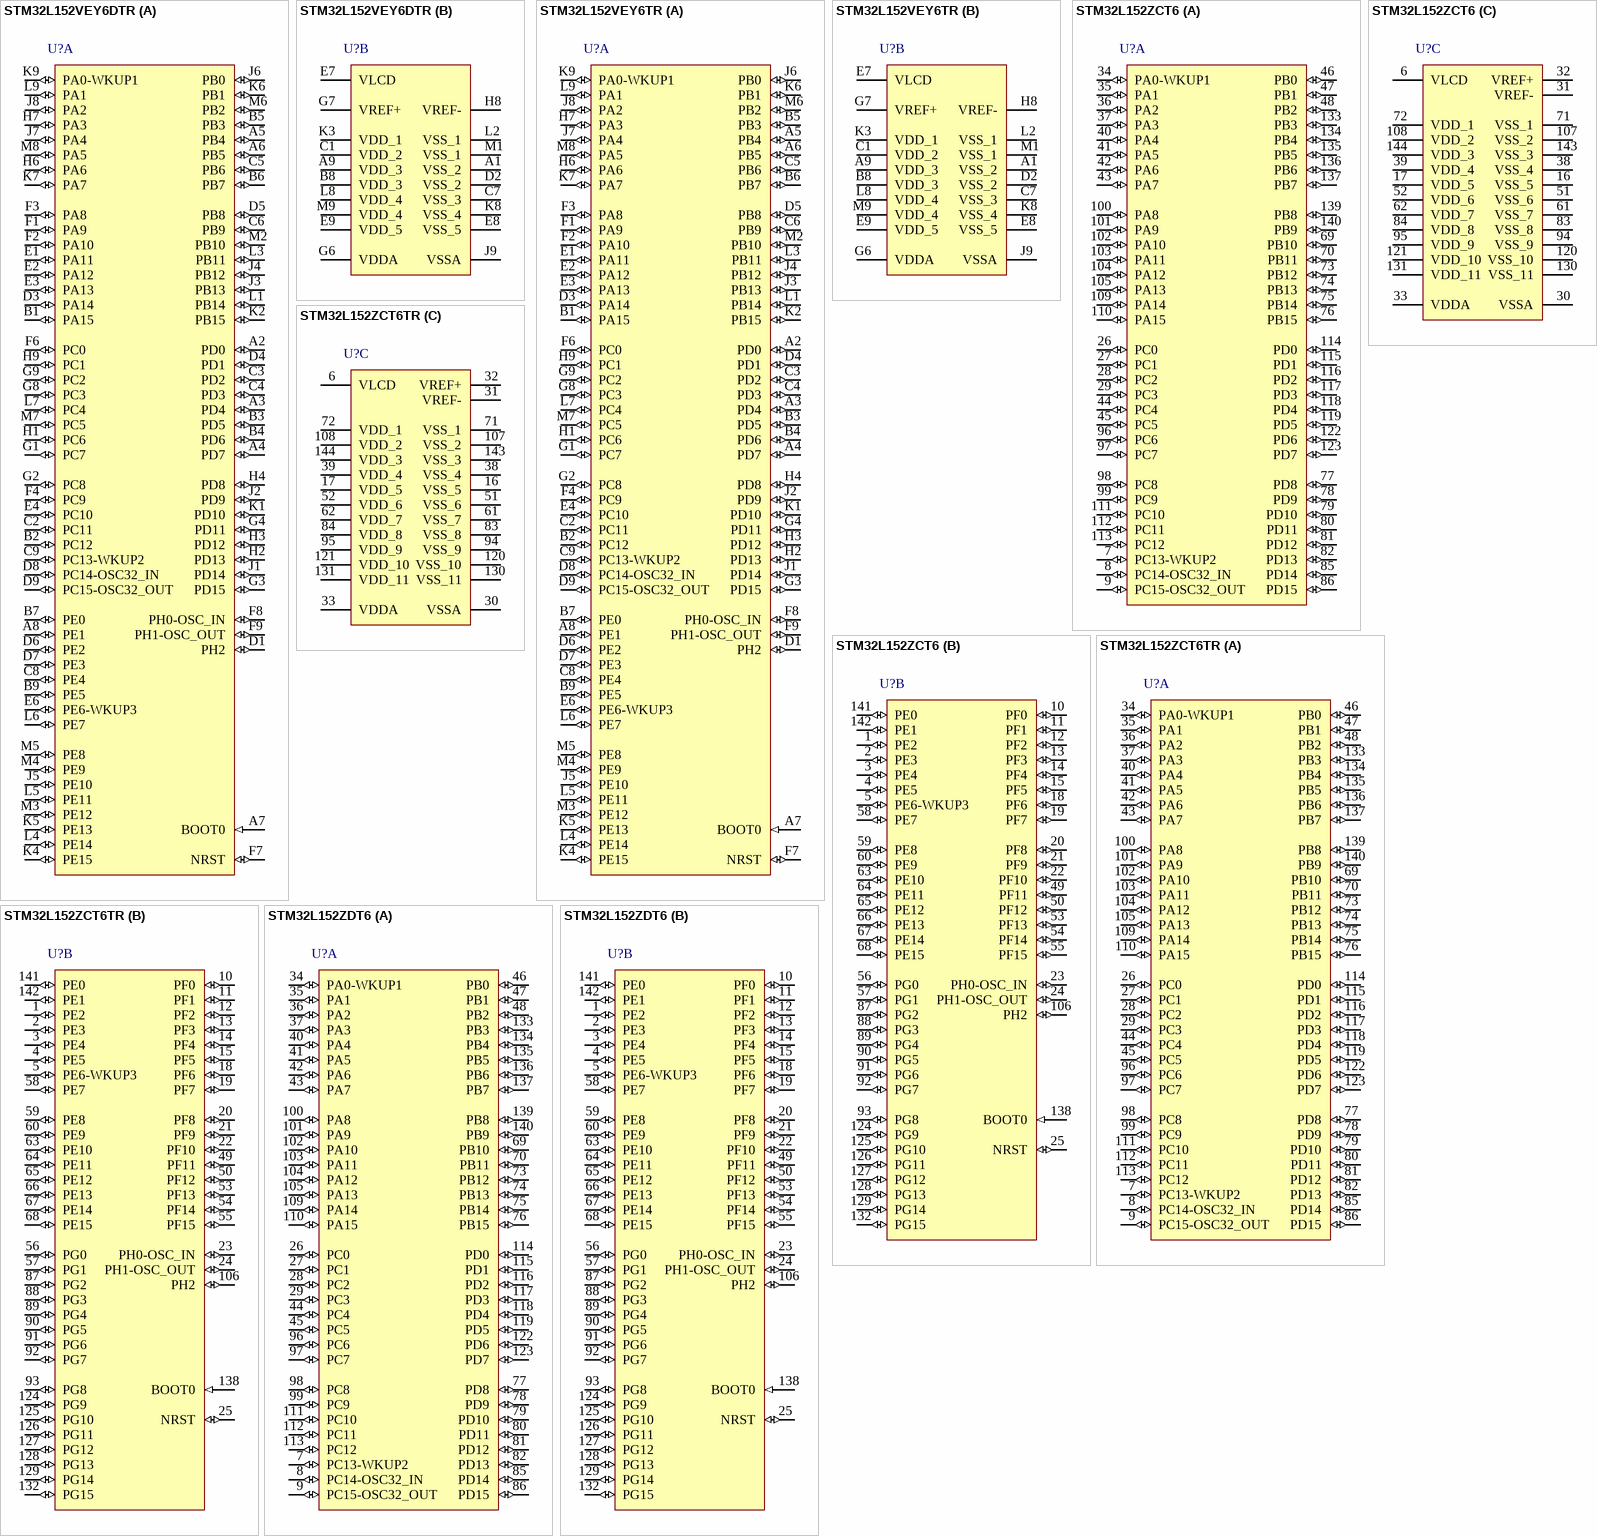
[diagram p26: symbols STM32L152VEY6DTR to STM32L152ZDT6]

## STM32L152VEY6DTR
designator U?
ARM Cortex-M3 32-bit MCU, 512 KB Flash, 80 KB Internal RAM, 83 I/Os, 104-pin WLCSP, -40 to 85 degC, Tape and Reel; Manufacturer: STMicroelectronics; PartNumber: STM32L152VEY6DTR; D/A Converter: 2x12-bit (2 Channel); Data E2PROM nom (kB): 16; FLASH Size (Prog) (kB): 512; I/Os (High Current): 83; Internal RAM Size (kB): 80; Operating Frequency(F) (Processor speed) (MHz): 32; Supply Voltage (V): 1.65 to 3.6 V; DatasheetVersion: Rev. 4; PackageVersion: Rev. 2; PackageReference: WLCSP104; PackageDescription: 104-Ball Wafer Level Chip Size package, Body 5.094 x 4.095 mm, Pitch 0.4 mm; Core: ARM Cortex-M3; Temperature Range: -40 to 85 degC; Packing: Tape and Reel; Mounting Technology: Surface Mount; ComponentLink1Description: Manufacturer URL; ComponentLink1URL: http://www.st.com/web/en/home.html; ComponentLink2Description: Datasheet; ComponentLink2URL: http://www.st.com/st-web-ui/static/active/en/resource/technical/document/datasheet/DM00098321.pdf; ComponentLink3Description: Package Specification; ComponentLink3URL: http://www.st.com/st-web-ui/static/active/en/resource/technical/document/datasheet/DM00106442.pdf
footprint STM-WLCSP104 (BGA, 104-Balls, Body 5.09x4.1mm, Pitch 0.4mm)
part A pins: A2 PD0 (io) "PD0/TIM9_CH1/SPI2_NSS/I2S2_WS", A3 PD4 (io) "PD4/SPI2_MOSI/I2S2_SD/USART2_RTS", A4 PD7 (io) "PD7/TIM9_CH2/USART2_CK", A5 PB4 (io) "PB4/NJTRST/TIM3_CH1/SPI1_MISO/SPI3_MISO/LCD_SEG8/COMP2_INP", A6 PB5 (io) "PB5/TIM3_CH2/I2C1_SMBA/SPI1_MOSI/SPI3_MOSI/I2S3_SD/LCD_SEG9/COMP2_INP", A7 BOOT0 (in), A8 PE1 (io) "PE1/TIM11_CH1/LCD_SEG37", B1 PA15 (io) "PA15/JTDI/TIM2_CH1_ETR/SPI1_NSS/SPI3_NSS/I2S3_WS/LCD_SEG17", B2 PC12 (io) "PC12/SPI3_MOSI/I2S3_SD/USART3_CK/UART5_TX/LCD_SEG30/LCD_SEG42/LCD_COM6", B3 PD5 (io) "PD5/USART2_TX", B4 PD6 (io) "PD6/USART2_RX", B5 PB3 (io) "PB3/JTDO/TIM2_CH2/SPI1_SCK/SPI3_SCK/I2S3_CK/LCD_SEG7/COMP2_INM", B6 PB7 (io) "PB7/TIM4_CH2/I2C1_SDA/USART1_RX/PVD_IN/COMP2_INP", B7 PE0 (io) "PE0/TIM4_ETR/TIM10_CH1/LCD_SEG36", B9 PE5 (io) "PE5/TIM9_CH1/TRACED2", C2 PC11 (io) "PC11/SPI3_MISO/USART3_RX/UART4_RX/LCD_SEG29/LCD_SEG41/LCD_COM5", C3 PD2 (io) "PD2/TIM3_ETR/UART5_RX/LCD_SEG31/LCD_SEG43/LCD_COM7", C4 PD3 (io) "PD3/SPI2_MISO/USART2_CTS", C5 PB6 (io) "PB6/TIM4_CH1/I2C1_SCL/USART1_TX/COMP2_INP", C6 PB9 (io) "PB9/TIM4_CH4/TIM11_CH1/I2C1_SDA/LCD_COM3", C8 PE4 (io) "PE4/TIM3_CH2/TRACED1", C9 PC13-WKUP2 (io) "PC13-WKUP2/PC13/WKUP2/RTC_TAMP1/RTC_TS/RTC_OUT", D1 PH2 (io), D3 PA14 (io) "PA14/JTCK-SWCLK", D4 PD1 (io) "PD1/SPI2_SCK/I2S2_CK", D5 PB8 (io) "PB8/TIM4_CH3/TIM10_CH1/I2C1_SCL/LCD_SEG16", D6 PE2 (io) "PE2/TIM3_ETR/LCD_SEG38/TRACECLK", D7 PE3 (io) "PE3/TIM3_CH1/LCD_SEG39/TRACED0", D8 PC14-OSC32_IN (io) "PC14-OSC32_IN/PC14/OSC32_IN", D9 PC15-OSC32_OUT (io) "PC15-OSC32_OUT/PC15/OSC32_OUT", E1 PA11 (io) "PA11/USART1_CTS/USB_DM/SPI1_MISO", E2 PA12 (io) "PA12/USART1_RTS/USB_DP/SPI1_MOSI", E3 PA13 (io) "PA13/JTMS-SWDAT", E4 PC10 (io) "PC10/SPI3_SCK/I2S3_CK/USART3_TX/UART4_TX/LCD_SEG28/LCD_SEG40/LCD_COM4", E6 PE6-WKUP3 (io) "PE6-WKUP3/PE6/WKUP3/RTC_TAMP3/TIM9_CH2/TRACED3", F1 PA9 (io) "PA9/USART1_TX/LCD_COM1", F2 PA10 (io) "PA10/USART1_RX/LCD_COM2", F3 PA8 (io) "PA8/USART1_CK/MCO/LCD_COM0", F4 PC9 (io) "PC9/TIM3_CH4/LCD_SEG27", F6 PC0 (io) "PC0/LCD_SEG18/ADC_IN10/COMP1_INP", F7 NRST (io), F8 PH0-OSC_IN (io) "PH0-OSC_IN/PH0/OSC_IN", F9 PH1-OSC_OUT (io) "PH1-OSC_OUT/PH1/OSC_OUT", G1 PC7 (io) "PC7/TIM3_CH2/I2S3_MCK/LCD_SEG25", G2 PC8 (io) "PC8/TIM3_CH3/LCD_SEG26", G3 PD15 (io) "PD15/TIM4_CH4/LCD_SEG35", G4 PD11 (io) "PD11/USART3_CTS/LCD_SEG31", G8 PC3 (io) "PC3/LCD_SEG21/ADC_IN13/COMP1_INP", G9 PC2 (io) "PC2/LCD_SEG20/ADC_IN12/COMP1_INP", H1 PC6 (io) "PC6/TIM3_CH1/I2S2_MCK/LCD_SEG24", H2 PD13 (io) "PD13/TIM4_CH2/LCD_SEG33", H3 PD12 (io) "PD12/TIM4_CH1/USART3_RTS/LCD_SEG32", H4 PD8 (io) "PD8/USART3_TX/LCD_SEG28", H6 PA6 (io) "PA6/TIM3_CH1/TIM10_CH1/SPI1_MISO/LCD_SEG3/ADC_IN6/COMP1_INP/OPAMP2_VINP", H7 PA3 (io) "PA3/TIM2_CH4/TIM5_CH4/TIM9_CH2/USART2_RX/LCD_SEG2/ADC_IN3/COMP1_INP/OPAMP1_VOUT", H9 PC1 (io) "PC1/LCD_SEG19/ADC_IN11/COMP1_INP", J1 PD14 (io) "PD14/TIM4_CH3/LCD_SEG34", J2 PD9 (io) "PD9/USART3_RX/LCD_SEG29", J3 PB13 (io) "PB13/TIM9_CH1/SPI2_SCK/I2S2_CK/USART3_CTS/LCD_SEG13/ADC_IN19/COMP1_INP", J4 PB12 (io) "PB12/TIM10_CH1/I2C2_SMBA/SPI2_NSS/I2S2_WS/USART3_CK/LCD_SEG12/ADC_IN18/COMP1_INP", J5 PE10 (io) "PE10/TIM2_CH2/ADC_IN25/COMP1_INP", J6 PB0 (io) "PB0/TIM3_CH3/LCD_SEG5/ADC_IN8/COMP1_INP/VREF_OUT/OPAMP2_VOUT", J7 PA4 (io) "PA4/SPI1_NSS/SPI3_NSS/I2S3_WS/USART2_CK/ADC_IN4/DAC_OUT1/COMP1_INP", J8 PA2 (io) "PA2/TIM2_CH3/TIM5_CH3/TIM9_CH1/USART2_TX/LCD_SEG1/ADC_IN2/COMP1_INP/OPAMP1_VINM", K1 PD10 (io) "PD10/USART3_CK/LCD_SEG30", K2 PB15 (io) "PB15/TIM11_CH1/SPI2_MOSI/I2S2_SD/LCD_SEG15/ADC_IN21/COMP1_INP/RTC_REFIN", K4 PE15 (io) "PE15/SPI1_MOSI", K5 PE13 (io) "PE13/SPI1_SCK", K6 PB1 (io) "PB1/TIM3_CH4/LCD_SEG6/ADC_IN9/COMP1_INP/VREF_OUT", K7 PA7 (io) "PA7/TIM3_CH2/TIM11_CH1/SPI1_MOSI/LCD_SEG4/ADC_IN7/COMP1_INP/OPAMP2_VINM", K9 PA0-WKUP1 (io) "PA0-WKUP1/PA0/WKUP1/RTC_TAMP2/TIM2_CH1_ETR/TIM5_CH1/USART2_CTS/ADC_IN0/COMP1_INP", L1 PB14 (io) "PB14/TIM9_CH2/SPI2_MISO/USART3_RTS/LCD_SEG14/ADC_IN20/COMP1_INP", L3 PB11 (io) "PB11/TIM2_CH4/I2C2_SDA/USART3_RX/LCD_SEG11", L4 PE14 (io) "PE14/SPI1_MISO", L5 PE11 (io) "PE11/TIM2_CH3", L6 PE7 (io) "PE7/ADC_IN22/COMP1_INP", L7 PC4 (io) "PC4/LCD_SEG22/ADC_IN14/COMP1_INP", L9 PA1 (io) "PA1/TIM2_CH2/TIM5_CH2/USART2_RTS/LCD_SEG0/ADC_IN1/COMP1_INP/OPAMP1_VINP", M2 PB10 (io) "PB10/TIM2_CH3/I2C2_SCL/USART3_TX/LCD_SEG10", M3 PE12 (io) "PE12/TIM2_CH4/SPI1_NSS", M4 PE9 (io) "PE9/TIM2_CH1_ETR/ADC_IN24/COMP1_INP", M5 PE8 (io) "PE8/ADC_IN23/COMP1_INP", M6 PB2 (io) "PB2/BOOT1/COMP1_INP", M7 PC5 (io) "PC5/LCD_SEG23/ADC_IN15/COMP1_INP", M8 PA5 (io) "PA5/TIM2_CH1_ETR/SPI1_SCK/ADC_IN5/DAC_OUT2/COMP1_INP"
part B pins: A1 VSS_2 (power), A9 VDD_3 (power), B8 VDD_3 (power), C1 VDD_2 (power), C7 VSS_3 (power), D2 VSS_2 (power), E7 VLCD (power), E8 VSS_5 (power), E9 VDD_5 (power), G6 VDDA (power), G7 VREF+ (power), H8 VREF- (power), J9 VSSA (power), K3 VDD_1 (power), K8 VSS_4 (power), L2 VSS_1 (power), L8 VDD_4 (power), M1 VSS_1 (power), M9 VDD_4 (power)

## STM32L152VEY6TR
designator U?
ARM Cortex-M3 32-bit MCU, 512 KB Flash, 80 KB Internal RAM, 83 I/Os, 104-pin WLCSP, -40 to 85 degC, Tape and Reel; Manufacturer: STMicroelectronics; PartNumber: STM32L152VEY6TR; D/A Converter: 2x12-bit (2 Channel); Data E2PROM nom (kB): 16; FLASH Size (Prog) (kB): 512; I/Os (High Current): 83; Internal RAM Size (kB): 80; Operating Frequency(F) (Processor speed) (MHz): 32; Supply Voltage (V): 1.8 to 3.6 V; DatasheetVersion: Rev. 4; PackageVersion: Rev. 2; PackageReference: WLCSP104; PackageDescription: 104-Ball Wafer Level Chip Size package, Body 5.094 x 4.095 mm, Pitch 0.4 mm; Core: ARM Cortex-M3; Temperature Range: -40 to 85 degC; Packing: Tape and Reel; Mounting Technology: Surface Mount; ComponentLink1Description: Manufacturer URL; ComponentLink1URL: http://www.st.com/web/en/home.html; ComponentLink2Description: Datasheet; ComponentLink2URL: http://www.st.com/st-web-ui/static/active/en/resource/technical/document/datasheet/DM00098321.pdf; ComponentLink3Description: Package Specification; ComponentLink3URL: http://www.st.com/st-web-ui/static/active/en/resource/technical/document/datasheet/DM00106442.pdf
footprint STM-WLCSP104 (BGA, 104-Balls, Body 5.09x4.1mm, Pitch 0.4mm)
part A pins: A2 PD0 (io) "PD0/TIM9_CH1/SPI2_NSS/I2S2_WS", A3 PD4 (io) "PD4/SPI2_MOSI/I2S2_SD/USART2_RTS", A4 PD7 (io) "PD7/TIM9_CH2/USART2_CK", A5 PB4 (io) "PB4/NJTRST/TIM3_CH1/SPI1_MISO/SPI3_MISO/LCD_SEG8/COMP2_INP", A6 PB5 (io) "PB5/TIM3_CH2/I2C1_SMBA/SPI1_MOSI/SPI3_MOSI/I2S3_SD/LCD_SEG9/COMP2_INP", A7 BOOT0 (in), A8 PE1 (io) "PE1/TIM11_CH1/LCD_SEG37", B1 PA15 (io) "PA15/JTDI/TIM2_CH1_ETR/SPI1_NSS/SPI3_NSS/I2S3_WS/LCD_SEG17", B2 PC12 (io) "PC12/SPI3_MOSI/I2S3_SD/USART3_CK/UART5_TX/LCD_SEG30/LCD_SEG42/LCD_COM6", B3 PD5 (io) "PD5/USART2_TX", B4 PD6 (io) "PD6/USART2_RX", B5 PB3 (io) "PB3/JTDO/TIM2_CH2/SPI1_SCK/SPI3_SCK/I2S3_CK/LCD_SEG7/COMP2_INM", B6 PB7 (io) "PB7/TIM4_CH2/I2C1_SDA/USART1_RX/PVD_IN/COMP2_INP", B7 PE0 (io) "PE0/TIM4_ETR/TIM10_CH1/LCD_SEG36", B9 PE5 (io) "PE5/TIM9_CH1/TRACED2", C2 PC11 (io) "PC11/SPI3_MISO/USART3_RX/UART4_RX/LCD_SEG29/LCD_SEG41/LCD_COM5", C3 PD2 (io) "PD2/TIM3_ETR/UART5_RX/LCD_SEG31/LCD_SEG43/LCD_COM7", C4 PD3 (io) "PD3/SPI2_MISO/USART2_CTS", C5 PB6 (io) "PB6/TIM4_CH1/I2C1_SCL/USART1_TX/COMP2_INP", C6 PB9 (io) "PB9/TIM4_CH4/TIM11_CH1/I2C1_SDA/LCD_COM3", C8 PE4 (io) "PE4/TIM3_CH2/TRACED1", C9 PC13-WKUP2 (io) "PC13-WKUP2/PC13/WKUP2/RTC_TAMP1/RTC_TS/RTC_OUT", D1 PH2 (io), D3 PA14 (io) "PA14/JTCK-SWCLK", D4 PD1 (io) "PD1/SPI2_SCK/I2S2_CK", D5 PB8 (io) "PB8/TIM4_CH3/TIM10_CH1/I2C1_SCL/LCD_SEG16", D6 PE2 (io) "PE2/TIM3_ETR/LCD_SEG38/TRACECLK", D7 PE3 (io) "PE3/TIM3_CH1/LCD_SEG39/TRACED0", D8 PC14-OSC32_IN (io) "PC14-OSC32_IN/PC14/OSC32_IN", D9 PC15-OSC32_OUT (io) "PC15-OSC32_OUT/PC15/OSC32_OUT", E1 PA11 (io) "PA11/USART1_CTS/USB_DM/SPI1_MISO", E2 PA12 (io) "PA12/USART1_RTS/USB_DP/SPI1_MOSI", E3 PA13 (io) "PA13/JTMS-SWDAT", E4 PC10 (io) "PC10/SPI3_SCK/I2S3_CK/USART3_TX/UART4_TX/LCD_SEG28/LCD_SEG40/LCD_COM4", E6 PE6-WKUP3 (io) "PE6-WKUP3/PE6/WKUP3/RTC_TAMP3/TIM9_CH2/TRACED3", F1 PA9 (io) "PA9/USART1_TX/LCD_COM1", F2 PA10 (io) "PA10/USART1_RX/LCD_COM2", F3 PA8 (io) "PA8/USART1_CK/MCO/LCD_COM0", F4 PC9 (io) "PC9/TIM3_CH4/LCD_SEG27", F6 PC0 (io) "PC0/LCD_SEG18/ADC_IN10/COMP1_INP", F7 NRST (io), F8 PH0-OSC_IN (io) "PH0-OSC_IN/PH0/OSC_IN", F9 PH1-OSC_OUT (io) "PH1-OSC_OUT/PH1/OSC_OUT", G1 PC7 (io) "PC7/TIM3_CH2/I2S3_MCK/LCD_SEG25", G2 PC8 (io) "PC8/TIM3_CH3/LCD_SEG26", G3 PD15 (io) "PD15/TIM4_CH4/LCD_SEG35", G4 PD11 (io) "PD11/USART3_CTS/LCD_SEG31", G8 PC3 (io) "PC3/LCD_SEG21/ADC_IN13/COMP1_INP", G9 PC2 (io) "PC2/LCD_SEG20/ADC_IN12/COMP1_INP", H1 PC6 (io) "PC6/TIM3_CH1/I2S2_MCK/LCD_SEG24", H2 PD13 (io) "PD13/TIM4_CH2/LCD_SEG33", H3 PD12 (io) "PD12/TIM4_CH1/USART3_RTS/LCD_SEG32", H4 PD8 (io) "PD8/USART3_TX/LCD_SEG28", H6 PA6 (io) "PA6/TIM3_CH1/TIM10_CH1/SPI1_MISO/LCD_SEG3/ADC_IN6/COMP1_INP/OPAMP2_VINP", H7 PA3 (io) "PA3/TIM2_CH4/TIM5_CH4/TIM9_CH2/USART2_RX/LCD_SEG2/ADC_IN3/COMP1_INP/OPAMP1_VOUT", H9 PC1 (io) "PC1/LCD_SEG19/ADC_IN11/COMP1_INP", J1 PD14 (io) "PD14/TIM4_CH3/LCD_SEG34", J2 PD9 (io) "PD9/USART3_RX/LCD_SEG29", J3 PB13 (io) "PB13/TIM9_CH1/SPI2_SCK/I2S2_CK/USART3_CTS/LCD_SEG13/ADC_IN19/COMP1_INP", J4 PB12 (io) "PB12/TIM10_CH1/I2C2_SMBA/SPI2_NSS/I2S2_WS/USART3_CK/LCD_SEG12/ADC_IN18/COMP1_INP", J5 PE10 (io) "PE10/TIM2_CH2/ADC_IN25/COMP1_INP", J6 PB0 (io) "PB0/TIM3_CH3/LCD_SEG5/ADC_IN8/COMP1_INP/VREF_OUT/OPAMP2_VOUT", J7 PA4 (io) "PA4/SPI1_NSS/SPI3_NSS/I2S3_WS/USART2_CK/ADC_IN4/DAC_OUT1/COMP1_INP", J8 PA2 (io) "PA2/TIM2_CH3/TIM5_CH3/TIM9_CH1/USART2_TX/LCD_SEG1/ADC_IN2/COMP1_INP/OPAMP1_VINM", K1 PD10 (io) "PD10/USART3_CK/LCD_SEG30", K2 PB15 (io) "PB15/TIM11_CH1/SPI2_MOSI/I2S2_SD/LCD_SEG15/ADC_IN21/COMP1_INP/RTC_REFIN", K4 PE15 (io) "PE15/SPI1_MOSI", K5 PE13 (io) "PE13/SPI1_SCK", K6 PB1 (io) "PB1/TIM3_CH4/LCD_SEG6/ADC_IN9/COMP1_INP/VREF_OUT", K7 PA7 (io) "PA7/TIM3_CH2/TIM11_CH1/SPI1_MOSI/LCD_SEG4/ADC_IN7/COMP1_INP/OPAMP2_VINM", K9 PA0-WKUP1 (io) "PA0-WKUP1/PA0/WKUP1/RTC_TAMP2/TIM2_CH1_ETR/TIM5_CH1/USART2_CTS/ADC_IN0/COMP1_INP", L1 PB14 (io) "PB14/TIM9_CH2/SPI2_MISO/USART3_RTS/LCD_SEG14/ADC_IN20/COMP1_INP", L3 PB11 (io) "PB11/TIM2_CH4/I2C2_SDA/USART3_RX/LCD_SEG11", L4 PE14 (io) "PE14/SPI1_MISO", L5 PE11 (io) "PE11/TIM2_CH3", L6 PE7 (io) "PE7/ADC_IN22/COMP1_INP", L7 PC4 (io) "PC4/LCD_SEG22/ADC_IN14/COMP1_INP", L9 PA1 (io) "PA1/TIM2_CH2/TIM5_CH2/USART2_RTS/LCD_SEG0/ADC_IN1/COMP1_INP/OPAMP1_VINP", M2 PB10 (io) "PB10/TIM2_CH3/I2C2_SCL/USART3_TX/LCD_SEG10", M3 PE12 (io) "PE12/TIM2_CH4/SPI1_NSS", M4 PE9 (io) "PE9/TIM2_CH1_ETR/ADC_IN24/COMP1_INP", M5 PE8 (io) "PE8/ADC_IN23/COMP1_INP", M6 PB2 (io) "PB2/BOOT1/COMP1_INP", M7 PC5 (io) "PC5/LCD_SEG23/ADC_IN15/COMP1_INP", M8 PA5 (io) "PA5/TIM2_CH1_ETR/SPI1_SCK/ADC_IN5/DAC_OUT2/COMP1_INP"
part B pins: A1 VSS_2 (power), A9 VDD_3 (power), B8 VDD_3 (power), C1 VDD_2 (power), C7 VSS_3 (power), D2 VSS_2 (power), E7 VLCD (power), E8 VSS_5 (power), E9 VDD_5 (power), G6 VDDA (power), G7 VREF+ (power), H8 VREF- (power), J9 VSSA (power), K3 VDD_1 (power), K8 VSS_4 (power), L2 VSS_1 (power), L8 VDD_4 (power), M1 VSS_1 (power), M9 VDD_4 (power)

## STM32L152ZCT6
designator U?
ARM Cortex-M3 32-bit MCU, 256 KB Flash, 32 KB Internal RAM, 115 I/Os, 144-pin LQFP, -40 to 85 degC, Tray; Manufacturer: STMicroelectronics; PartNumber: STM32L152ZCT6; D/A Converter: 2x12-bit (2 Channel); Data E2PROM nom (B): 8192; Display controller: LCD 4x44/8x40; FLASH Size (Prog) (kB): 256; I/Os (High Current): 115; Internal RAM Size (kB): 32; Supply Voltage(Vcc) min (V): 1.65; DatasheetVersion: Rev. 3; PackageVersion: Rev. 4, 06/2013; PackageReference: LQFP144; PackageDescription: 144-Pin Low Profile Quad Flat Package, 20 x 20 mm Body, 0.5 mm Pitch; Core: ARM Cortex-M3; Operating Frequency(F) (Processor speed) (MHz): 32; Packing: Tray; Mounting Technology: Surface Mount; ComponentLink1Description: Manufacturer URL; ComponentLink1URL: http://www.st.com/web/en/home.html; ComponentLink2Description: Datasheet; ComponentLink2URL: http://www.st.com/st-web-ui/static/active/en/resource/technical/document/datasheet/DM00048356.pdf; ComponentLink3Description: Package Specification; ComponentLink3URL: http://www.st.com/st-web-ui/static/active/en/resource/technical/document/datasheet/DM00037051.pdf
footprint STM-LQFP144_N (Thin QFP, 144-Leads, Body 20x20mm, Pitch 0.5mm, IPC Medium Density)
footprint STM-LQFP144_L (Thin QFP, 144-Leads, Body 20x20mm, Pitch 0.5mm, IPC High Density)
footprint STM-LQFP144_M (Thin QFP, 144-Leads, Body 20x20mm, Pitch 0.5mm, IPC Low Density)
footprint STM-LQFP144_V (Thin QFP, 144-Leads, Body 20x20mm, Pitch 0.5mm, ST Recommended)
part A pins: 7 PC13-WKUP2 (io) "PC13-WKUP2/PC13/WKUP2/RTC_TAMP1/RTC_TS/RTC_OUT", 8 PC14-OSC32_IN (io) "PC14-OSC32_IN/PC14/OSC32_IN", 9 PC15-OSC32_OUT (io) "PC15-OSC32_OUT/PC15/OSC32_OUT", 26 PC0 (io) "PC0/LCD_SEG18/ADC_IN10/COMP1_INP", 27 PC1 (io) "PC1/LCD_SEG19/ADC_IN11/COMP1_INP", 28 PC2 (io) "PC2/LCD_SEG20/ADC_IN12/COMP1_INP", 29 PC3 (io) "PC3/LCD_SEG21/ADC_IN13/COMP1_INP", 34 PA0-WKUP1 (io) "PA0-WKUP1/PA0/WKUP1/RTC_TAMP2/TIM2_CH1_ETR/TIM5_CH1/USART2_CTS/ADC_IN0/COMP1_INP", 35 PA1 (io) "PA1/TIM2_CH2/TIM5_CH2/USART2_RTS/LCD_SEG0/ADC_IN1/COMP1_INP/OPAMP1_VINP", 36 PA2 (io) "PA2/TIM2_CH3/TIM5_CH3/TIM9_CH1/USART2_TX/LCD_SEG1/ADC_IN2/COMP1_INP/OPAMP1_VINM", 37 PA3 (io) "PA3/TIM2_CH4/TIM5_CH4/TIM9_CH2/USART2_RX/LCD_SEG2/ADC_IN3/COMP1_INP/OPAMP1_VOUT", 40 PA4 (io) "PA4/SPI1_NSS/SPI3_NSS/I2S3_WS/USART2_CK/ADC_IN4/DAC_OUT1/COMP1_INP", 41 PA5 (io) "PA5/TIM2_CH1_ETR/SPI1_SCK/ADC_IN5/DAC_OUT2/COMP1_INP", 42 PA6 (io) "PA6/TIM3_CH1/TIM10_CH1/SPI1_MISO/LCD_SEG3/ADC_IN6/COMP1_INP/OPAMP2_VINP", 43 PA7 (io) "PA7/TIM3_CH2/TIM11_CH1/SPI1_MOSI/LCD_SEG4/ADC_IN7/COMP1_INP/OPAMP2_VINM", 44 PC4 (io) "PC4/LCD_SEG22/ADC_IN14/COMP1_INP", 45 PC5 (io) "PC5/LCD_SEG23/ADC_IN15/COMP1_INP", 46 PB0 (io) "PB0/TIM3_CH3/LCD_SEG5/ADC_IN8/COMP1_INP/VREF_OUT/OPAMP2_VOUT", 47 PB1 (io) "PB1/TIM3_CH4/LCD_SEG6/ADC_IN9/COMP1_INP/VREF_OUT", 48 PB2 (io) "PB2/BOOT1/ADC_IN0B/COMP1_INP", 69 PB10 (io) "PB10/TIM2_CH3/I2C2_SCL/USART3_TX/LCD_SEG10", 70 PB11 (io) "PB11/TIM2_CH4/I2C2_SDA/USART3_RX/LCD_SEG11", 73 PB12 (io) "PB12/TIM10_CH1/I2C2_SMBA/SPI2_NSS/I2S2_WS/USART3_CK/LCD_SEG12/ADC_IN18/COMP1_INP", 74 PB13 (io) "PB13/TIM9_CH1/SPI2_SCK/I2S2_CK/USART3_CTS/LCD_SEG13/ADC_IN19/COMP1_INP", 75 PB14 (io) "PB14/TIM9_CH2/SPI2_MISO/USART3_RTS/LCD_SEG14/ADC_IN20/COMP1_INP", 76 PB15 (io) "PB15/TIM11_CH1/SPI2_MOSI/I2S2_SD/LCD_SEG15/ADC_IN21/COMP1_INP/RTC_REFIN", 77 PD8 (io) "PD8/USART3_TX/LCD_SEG28", 78 PD9 (io) "PD9/USART3_RX/LCD_SEG29", 79 PD10 (io) "PD10/USART3_CK/LCD_SEG30", 80 PD11 (io) "PD11/USART3_CTS/LCD_SEG31", 81 PD12 (io) "PD12/TIM4_CH1/USART3_RTS/LCD_SEG32", 82 PD13 (io) "PD13/TIM4_CH2/LCD_SEG33", 85 PD14 (io) "PD14/TIM4_CH3/LCD_SEG34", 86 PD15 (io) "PD15/TIM4_CH4/LCD_SEG35", 96 PC6 (io) "PC6/TIM3_CH1/I2S2_MCK/LCD_SEG24", 97 PC7 (io) "PC7/TIM3_CH2/I2S3_MCK/LCD_SEG25", 98 PC8 (io) "PC8/TIM3_CH3/LCD_SEG26", 99 PC9 (io) "PC9/TIM3_CH4/LCD_SEG27", 100 PA8 (io) "PA8/USART1_CK/MCO/LCD_COM0", 101 PA9 (io) "PA9/USART1_TX/LCD_COM1", 102 PA10 (io) "PA10/USART1_RX/LCD_COM2", 103 PA11 (io) "PA11/USART1_CTS/USB_DM/SPI1_MISO", 104 PA12 (io) "PA12/USART1_RTS/USB_DP/SPI1_MOSI", 105 PA13 (io) "PA13/JTMS-SWDAT", 109 PA14 (io) "PA14/JTCK-SWCLK", 110 PA15 (io) "PA15/JTDI/TIM2_CH1_ETR/SPI1_NSS/SPI3_NSS/I2S3_WS/LCD_SEG17", 111 PC10 (io) "PC10/SPI3_SCK/I2S3_CK/USART3_TX/LCD_SEG28/LCD_SEG40/LCD_COM4", 112 PC11 (io) "PC11/SPI3_MISO/USART3_RX/LCD_SEG29/LCD_SEG41/LCD_COM5", 113 PC12 (io) "PC12/SPI3_MOSI/I2S3_SD/USART3_CK/LCD_SEG30/LCD_SEG42/LCD_COM6", 114 PD0 (io) "PD0/TIM9_CH1/SPI2_NSS/I2S2_WS", 115 PD1 (io) "PD1/SPI2_SCK/I2S2_CK", 116 PD2 (io) "PD2/TIM3_ETR/LCD_SEG31/LCD_SEG43/LCD_COM7", 117 PD3 (io) "PD3/SPI2_MISO/USART2_CTS", 118 PD4 (io) "PD4/SPI2_MOSI/I2S2_SD/USART2_RTS", 119 PD5 (io) "PD5/USART2_TX", 122 PD6 (io) "PD6/USART2_RX", 123 PD7 (io) "PD7/TIM9_CH2/USART2_CK", 133 PB3 (io) "PB3/JTDO/TIM2_CH2/SPI1_SCK/SPI3_SCK/I2S3_CK/LCD_SEG7/COMP2_INM", 134 PB4 (io) "PB4/NJTRST/TIM3_CH1/SPI1_MISO/SPI3_MISO/LCD_SEG8/COMP2_INP", 135 PB5 (io) "PB5/TIM3_CH2/I2C1_SMBA/SPI1_MOSI/SPI3_MOSI/I2S3_SD/LCD_SEG9/COMP2_INP", 136 PB6 (io) "PB6/TIM4_CH1/I2C1_SCL/USART1_TX/COMP2_INP", 137 PB7 (io) "PB7/TIM4_CH2/I2C1_SDA/USART1_RX/PVD_IN/COMP2_INP", 139 PB8 (io) "PB8/TIM4_CH3/TIM10_CH1/I2C1_SCL/LCD_SEG16", 140 PB9 (io) "PB9/TIM4_CH4/TIM11_CH1/I2C1_SDA/LCD_COM3"
part B pins: 1 PE2 (io) "PE2/TIM3_ETR/LCD_SEG38/TRACECLK", 2 PE3 (io) "PE3/TIM3_CH1/LCD_SEG39/TRACED0", 3 PE4 (io) "PE4/TIM3_CH2/TRACED1", 4 PE5 (io) "PE5/TIM9_CH1/TRACED2", 5 PE6-WKUP3 (io) "PE6-WKUP3/PE6/WKUP3/RTC_TAMP3/TIM9_CH2/TRACED3", 10 PF0 (io), 11 PF1 (io), 12 PF2 (io), 13 PF3 (io), 14 PF4 (io), 15 PF5 (io), 18 PF6 (io) "PF6/TIM5_CH1/TIM5_ETR/ADC_IN27", 19 PF7 (io) "PF7/TIM5_CH2/ADC_IN28/COMP1_INP", 20 PF8 (io) "PF8/TIM5_CH3/ADC_IN29/COMP1_INP", 21 PF9 (io) "PF9/TIM5_CH4/ADC_IN30/COMP1_INP", 22 PF10 (io) "PF10/ADC_IN30/COMP1_INP", 23 PH0-OSC_IN (io) "PH0-OSC_IN/PH0/OSC_IN", 24 PH1-OSC_OUT (io) "PH1-OSC_OUT/PH1/OSC_OUT", 25 NRST (io), 49 PF11 (io) "PF11/ADC_IN1B/COMP1_INP", 50 PF12 (io) "PF12/ADC_IN2B/COMP1_INP", 53 PF13 (io) "PF13/ADC_IN3B/COMP1_INP", 54 PF14 (io) "PF14/ADC_IN6B/COMP1_INP", 55 PF15 (io) "PF15/ADC_IN7B/COMP1_INP", 56 PG0 (io) "PG0/ADC_IN8B/COMP1_INP", 57 PG1 (io) "PG1/ADC_IN9B/COMP1_INP", 58 PE7 (io) "PE7/ADC_IN22/COMP1_INP", 59 PE8 (io) "PE8/ADC_IN23/COMP1_INP", 60 PE9 (io) "PE9/TIM2_CH1_ETR/ADC_IN24/COMP1_INP", 63 PE10 (io) "PE10/TIM2_CH2/ADC_IN25/COMP1_INP", 64 PE11 (io) "PE11/TIM2_CH3", 65 PE12 (io) "PE12/TIM2_CH4/SPI1_NSS", 66 PE13 (io) "PE13/SPI1_SCK", 67 PE14 (io) "PE14/SPI1_MISO", 68 PE15 (io) "PE15/SPI1_MOSI", 87 PG2 (io) "PG2/ADC_IN10B/COMP1_INP", 88 PG3 (io) "PG3/ADC_IN11B/COMP1_INP", 89 PG4 (io) "PG4/ADC_IN12B/COMP1_INP", 90 PG5 (io), 91 PG6 (io), 92 PG7 (io), 93 PG8 (io), 106 PH2 (io), 124 PG9 (io), 125 PG10 (io), 126 PG11 (io), 127 PG12 (io), 128 PG13 (io), 129 PG14 (io), 132 PG15 (io), 138 BOOT0 (in), 141 PE0 (io) "PE0/TIM4_ETR/TIM10_CH1/LCD_SEG36", 142 PE1 (io) "PE1/TIM11_CH1/LCD_SEG37"
part C pins: 6 VLCD (power), 16 VSS_5 (power), 17 VDD_5 (power), 30 VSSA (power), 31 VREF- (power), 32 VREF+ (power), 33 VDDA (power), 38 VSS_4 (power), 39 VDD_4 (power), 51 VSS_6 (power), 52 VDD_6 (power), 61 VSS_7 (power), 62 VDD_7 (power), 71 VSS_1 (power), 72 VDD_1 (power), 83 VSS_8 (power), 84 VDD_8 (power), 94 VSS_9 (power), 95 VDD_9 (power), 107 VSS_2 (power), 108 VDD_2 (power), 120 VSS_10 (power), 121 VDD_10 (power), 130 VSS_11 (power), 131 VDD_11 (power), 143 VSS_3 (power), 144 VDD_3 (power)

## STM32L152ZCT6TR
designator U?
ARM Cortex-M3 32-bit MCU, 256 KB Flash, 32 KB Internal RAM, 115 I/Os, 144-pin LQFP, -40 to 85 degC, Tape and Reel; Manufacturer: STMicroelectronics; PartNumber: STM32L152ZCT6TR; D/A Converter: 2x12-bit (2 Channel); Data E2PROM nom (B): 8192; Display controller: LCD 4x44/8x40; FLASH Size (Prog) (kB): 256; I/Os (High Current): 115; Internal RAM Size (kB): 32; Supply Voltage(Vcc) min (V): 1.65; DatasheetVersion: Rev. 3; PackageVersion: Rev. 4, 06/2013; PackageReference: LQFP144; PackageDescription: 144-Pin Low Profile Quad Flat Package, 20 x 20 mm Body, 0.5 mm Pitch; Core: ARM Cortex-M3; Operating Frequency(F) (Processor speed) (MHz): 32; Packing: Tape and Reel; Mounting Technology: Surface Mount; ComponentLink1Description: Manufacturer URL; ComponentLink1URL: http://www.st.com/web/en/home.html; ComponentLink2Description: Datasheet; ComponentLink2URL: http://www.st.com/st-web-ui/static/active/en/resource/technical/document/datasheet/DM00048356.pdf; ComponentLink3Description: Package Specification; ComponentLink3URL: http://www.st.com/st-web-ui/static/active/en/resource/technical/document/datasheet/DM00037051.pdf
footprint STM-LQFP144_N (Thin QFP, 144-Leads, Body 20x20mm, Pitch 0.5mm, IPC Medium Density)
footprint STM-LQFP144_L (Thin QFP, 144-Leads, Body 20x20mm, Pitch 0.5mm, IPC High Density)
footprint STM-LQFP144_M (Thin QFP, 144-Leads, Body 20x20mm, Pitch 0.5mm, IPC Low Density)
footprint STM-LQFP144_V (Thin QFP, 144-Leads, Body 20x20mm, Pitch 0.5mm, ST Recommended)
part A pins: 7 PC13-WKUP2 (io) "PC13-WKUP2/PC13/WKUP2/RTC_TAMP1/RTC_TS/RTC_OUT", 8 PC14-OSC32_IN (io) "PC14-OSC32_IN/PC14/OSC32_IN", 9 PC15-OSC32_OUT (io) "PC15-OSC32_OUT/PC15/OSC32_OUT", 26 PC0 (io) "PC0/LCD_SEG18/ADC_IN10/COMP1_INP", 27 PC1 (io) "PC1/LCD_SEG19/ADC_IN11/COMP1_INP", 28 PC2 (io) "PC2/LCD_SEG20/ADC_IN12/COMP1_INP", 29 PC3 (io) "PC3/LCD_SEG21/ADC_IN13/COMP1_INP", 34 PA0-WKUP1 (io) "PA0-WKUP1/PA0/WKUP1/RTC_TAMP2/TIM2_CH1_ETR/TIM5_CH1/USART2_CTS/ADC_IN0/COMP1_INP", 35 PA1 (io) "PA1/TIM2_CH2/TIM5_CH2/USART2_RTS/LCD_SEG0/ADC_IN1/COMP1_INP/OPAMP1_VINP", 36 PA2 (io) "PA2/TIM2_CH3/TIM5_CH3/TIM9_CH1/USART2_TX/LCD_SEG1/ADC_IN2/COMP1_INP/OPAMP1_VINM", 37 PA3 (io) "PA3/TIM2_CH4/TIM5_CH4/TIM9_CH2/USART2_RX/LCD_SEG2/ADC_IN3/COMP1_INP/OPAMP1_VOUT", 40 PA4 (io) "PA4/SPI1_NSS/SPI3_NSS/I2S3_WS/USART2_CK/ADC_IN4/DAC_OUT1/COMP1_INP", 41 PA5 (io) "PA5/TIM2_CH1_ETR/SPI1_SCK/ADC_IN5/DAC_OUT2/COMP1_INP", 42 PA6 (io) "PA6/TIM3_CH1/TIM10_CH1/SPI1_MISO/LCD_SEG3/ADC_IN6/COMP1_INP/OPAMP2_VINP", 43 PA7 (io) "PA7/TIM3_CH2/TIM11_CH1/SPI1_MOSI/LCD_SEG4/ADC_IN7/COMP1_INP/OPAMP2_VINM", 44 PC4 (io) "PC4/LCD_SEG22/ADC_IN14/COMP1_INP", 45 PC5 (io) "PC5/LCD_SEG23/ADC_IN15/COMP1_INP", 46 PB0 (io) "PB0/TIM3_CH3/LCD_SEG5/ADC_IN8/COMP1_INP/VREF_OUT/OPAMP2_VOUT", 47 PB1 (io) "PB1/TIM3_CH4/LCD_SEG6/ADC_IN9/COMP1_INP/VREF_OUT", 48 PB2 (io) "PB2/BOOT1/ADC_IN0B/COMP1_INP", 69 PB10 (io) "PB10/TIM2_CH3/I2C2_SCL/USART3_TX/LCD_SEG10", 70 PB11 (io) "PB11/TIM2_CH4/I2C2_SDA/USART3_RX/LCD_SEG11", 73 PB12 (io) "PB12/TIM10_CH1/I2C2_SMBA/SPI2_NSS/I2S2_WS/USART3_CK/LCD_SEG12/ADC_IN18/COMP1_INP", 74 PB13 (io) "PB13/TIM9_CH1/SPI2_SCK/I2S2_CK/USART3_CTS/LCD_SEG13/ADC_IN19/COMP1_INP", 75 PB14 (io) "PB14/TIM9_CH2/SPI2_MISO/USART3_RTS/LCD_SEG14/ADC_IN20/COMP1_INP", 76 PB15 (io) "PB15/TIM11_CH1/SPI2_MOSI/I2S2_SD/LCD_SEG15/ADC_IN21/COMP1_INP/RTC_REFIN", 77 PD8 (io) "PD8/USART3_TX/LCD_SEG28", 78 PD9 (io) "PD9/USART3_RX/LCD_SEG29", 79 PD10 (io) "PD10/USART3_CK/LCD_SEG30", 80 PD11 (io) "PD11/USART3_CTS/LCD_SEG31", 81 PD12 (io) "PD12/TIM4_CH1/USART3_RTS/LCD_SEG32", 82 PD13 (io) "PD13/TIM4_CH2/LCD_SEG33", 85 PD14 (io) "PD14/TIM4_CH3/LCD_SEG34", 86 PD15 (io) "PD15/TIM4_CH4/LCD_SEG35", 96 PC6 (io) "PC6/TIM3_CH1/I2S2_MCK/LCD_SEG24", 97 PC7 (io) "PC7/TIM3_CH2/I2S3_MCK/LCD_SEG25", 98 PC8 (io) "PC8/TIM3_CH3/LCD_SEG26", 99 PC9 (io) "PC9/TIM3_CH4/LCD_SEG27", 100 PA8 (io) "PA8/USART1_CK/MCO/LCD_COM0", 101 PA9 (io) "PA9/USART1_TX/LCD_COM1", 102 PA10 (io) "PA10/USART1_RX/LCD_COM2", 103 PA11 (io) "PA11/USART1_CTS/USB_DM/SPI1_MISO", 104 PA12 (io) "PA12/USART1_RTS/USB_DP/SPI1_MOSI", 105 PA13 (io) "PA13/JTMS-SWDAT", 109 PA14 (io) "PA14/JTCK-SWCLK", 110 PA15 (io) "PA15/JTDI/TIM2_CH1_ETR/SPI1_NSS/SPI3_NSS/I2S3_WS/LCD_SEG17", 111 PC10 (io) "PC10/SPI3_SCK/I2S3_CK/USART3_TX/LCD_SEG28/LCD_SEG40/LCD_COM4", 112 PC11 (io) "PC11/SPI3_MISO/USART3_RX/LCD_SEG29/LCD_SEG41/LCD_COM5", 113 PC12 (io) "PC12/SPI3_MOSI/I2S3_SD/USART3_CK/LCD_SEG30/LCD_SEG42/LCD_COM6", 114 PD0 (io) "PD0/TIM9_CH1/SPI2_NSS/I2S2_WS", 115 PD1 (io) "PD1/SPI2_SCK/I2S2_CK", 116 PD2 (io) "PD2/TIM3_ETR/LCD_SEG31/LCD_SEG43/LCD_COM7", 117 PD3 (io) "PD3/SPI2_MISO/USART2_CTS", 118 PD4 (io) "PD4/SPI2_MOSI/I2S2_SD/USART2_RTS", 119 PD5 (io) "PD5/USART2_TX", 122 PD6 (io) "PD6/USART2_RX", 123 PD7 (io) "PD7/TIM9_CH2/USART2_CK", 133 PB3 (io) "PB3/JTDO/TIM2_CH2/SPI1_SCK/SPI3_SCK/I2S3_CK/LCD_SEG7/COMP2_INM", 134 PB4 (io) "PB4/NJTRST/TIM3_CH1/SPI1_MISO/SPI3_MISO/LCD_SEG8/COMP2_INP", 135 PB5 (io) "PB5/TIM3_CH2/I2C1_SMBA/SPI1_MOSI/SPI3_MOSI/I2S3_SD/LCD_SEG9/COMP2_INP", 136 PB6 (io) "PB6/TIM4_CH1/I2C1_SCL/USART1_TX/COMP2_INP", 137 PB7 (io) "PB7/TIM4_CH2/I2C1_SDA/USART1_RX/PVD_IN/COMP2_INP", 139 PB8 (io) "PB8/TIM4_CH3/TIM10_CH1/I2C1_SCL/LCD_SEG16", 140 PB9 (io) "PB9/TIM4_CH4/TIM11_CH1/I2C1_SDA/LCD_COM3"
part B pins: 1 PE2 (io) "PE2/TIM3_ETR/LCD_SEG38/TRACECLK", 2 PE3 (io) "PE3/TIM3_CH1/LCD_SEG39/TRACED0", 3 PE4 (io) "PE4/TIM3_CH2/TRACED1", 4 PE5 (io) "PE5/TIM9_CH1/TRACED2", 5 PE6-WKUP3 (io) "PE6-WKUP3/PE6/WKUP3/RTC_TAMP3/TIM9_CH2/TRACED3", 10 PF0 (io), 11 PF1 (io), 12 PF2 (io), 13 PF3 (io), 14 PF4 (io), 15 PF5 (io), 18 PF6 (io) "PF6/TIM5_CH1/TIM5_ETR/ADC_IN27", 19 PF7 (io) "PF7/TIM5_CH2/ADC_IN28/COMP1_INP", 20 PF8 (io) "PF8/TIM5_CH3/ADC_IN29/COMP1_INP", 21 PF9 (io) "PF9/TIM5_CH4/ADC_IN30/COMP1_INP", 22 PF10 (io) "PF10/ADC_IN30/COMP1_INP", 23 PH0-OSC_IN (io) "PH0-OSC_IN/PH0/OSC_IN", 24 PH1-OSC_OUT (io) "PH1-OSC_OUT/PH1/OSC_OUT", 25 NRST (io), 49 PF11 (io) "PF11/ADC_IN1B/COMP1_INP", 50 PF12 (io) "PF12/ADC_IN2B/COMP1_INP", 53 PF13 (io) "PF13/ADC_IN3B/COMP1_INP", 54 PF14 (io) "PF14/ADC_IN6B/COMP1_INP", 55 PF15 (io) "PF15/ADC_IN7B/COMP1_INP", 56 PG0 (io) "PG0/ADC_IN8B/COMP1_INP", 57 PG1 (io) "PG1/ADC_IN9B/COMP1_INP", 58 PE7 (io) "PE7/ADC_IN22/COMP1_INP", 59 PE8 (io) "PE8/ADC_IN23/COMP1_INP", 60 PE9 (io) "PE9/TIM2_CH1_ETR/ADC_IN24/COMP1_INP", 63 PE10 (io) "PE10/TIM2_CH2/ADC_IN25/COMP1_INP", 64 PE11 (io) "PE11/TIM2_CH3", 65 PE12 (io) "PE12/TIM2_CH4/SPI1_NSS", 66 PE13 (io) "PE13/SPI1_SCK", 67 PE14 (io) "PE14/SPI1_MISO", 68 PE15 (io) "PE15/SPI1_MOSI", 87 PG2 (io) "PG2/ADC_IN10B/COMP1_INP", 88 PG3 (io) "PG3/ADC_IN11B/COMP1_INP", 89 PG4 (io) "PG4/ADC_IN12B/COMP1_INP", 90 PG5 (io), 91 PG6 (io), 92 PG7 (io), 93 PG8 (io), 106 PH2 (io), 124 PG9 (io), 125 PG10 (io), 126 PG11 (io), 127 PG12 (io), 128 PG13 (io), 129 PG14 (io), 132 PG15 (io), 138 BOOT0 (in), 141 PE0 (io) "PE0/TIM4_ETR/TIM10_CH1/LCD_SEG36", 142 PE1 (io) "PE1/TIM11_CH1/LCD_SEG37"
part C pins: 6 VLCD (power), 16 VSS_5 (power), 17 VDD_5 (power), 30 VSSA (power), 31 VREF- (power), 32 VREF+ (power), 33 VDDA (power), 38 VSS_4 (power), 39 VDD_4 (power), 51 VSS_6 (power), 52 VDD_6 (power), 61 VSS_7 (power), 62 VDD_7 (power), 71 VSS_1 (power), 72 VDD_1 (power), 83 VSS_8 (power), 84 VDD_8 (power), 94 VSS_9 (power), 95 VDD_9 (power), 107 VSS_2 (power), 108 VDD_2 (power), 120 VSS_10 (power), 121 VDD_10 (power), 130 VSS_11 (power), 131 VDD_11 (power), 143 VSS_3 (power), 144 VDD_3 (power)

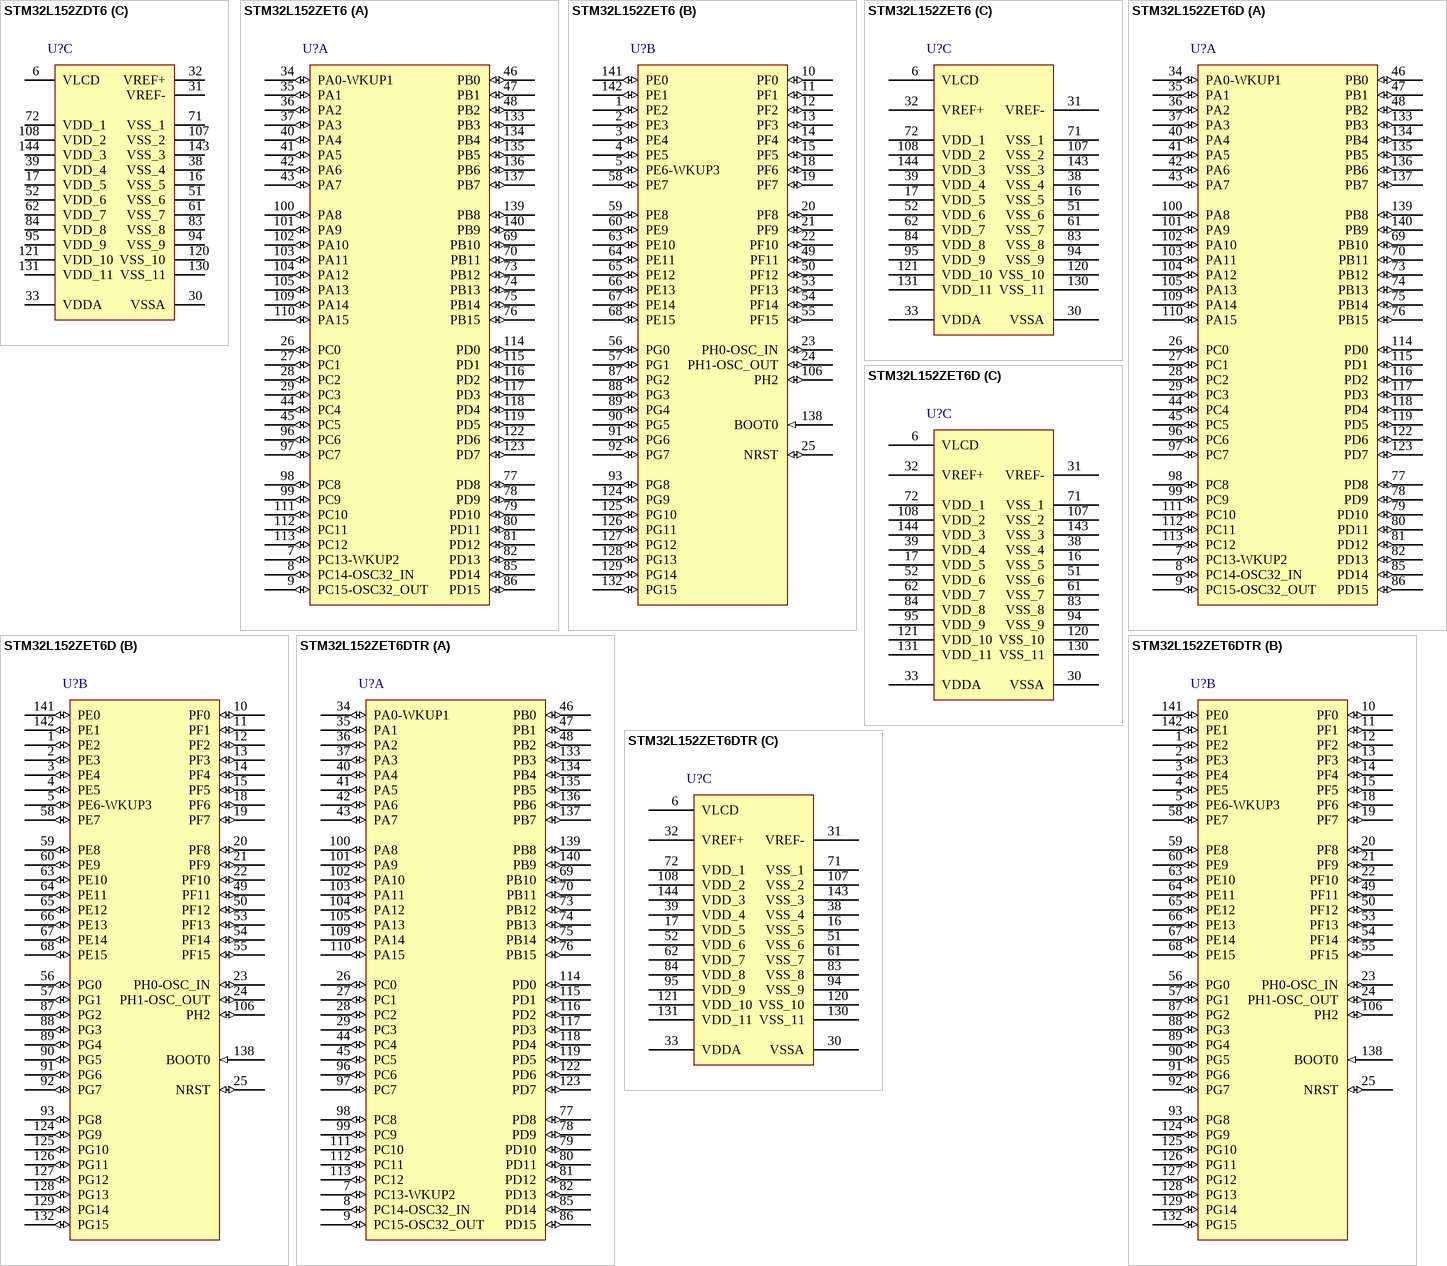
[diagram p27: symbols STM32L152ZDT6 to STM32L152ZET6DTR]